# EAGLE library part MKL15Z128VFM4 (library QFN32)
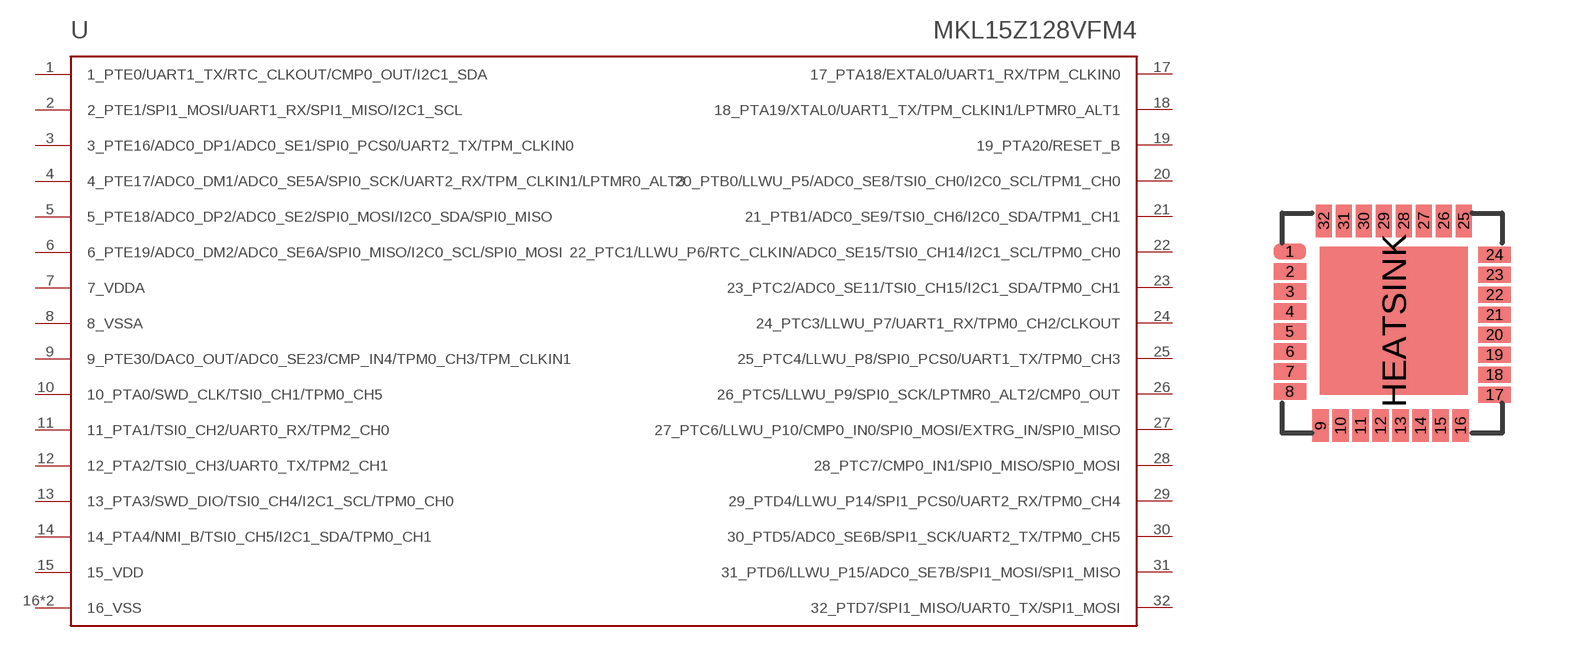
[diagram p0: symbol with the pads of QFN32; footprint QFN32]

Designator prefix -

## MKL15Z128VFM4  [QFN32]
1  1_PTE0/UART1_TX/RTC_CLKOUT/CMP0_OUT/I2C1_SDA
2  2_PTE1/SPI1_MOSI/UART1_RX/SPI1_MISO/I2C1_SCL
3  3_PTE16/ADC0_DP1/ADC0_SE1/SPI0_PCS0/UART2_TX/TPM_CLKIN0
4  4_PTE17/ADC0_DM1/ADC0_SE5A/SPI0_SCK/UART2_RX/TPM_CLKIN1/LPTMR0_ALT3
5  5_PTE18/ADC0_DP2/ADC0_SE2/SPI0_MOSI/I2C0_SDA/SPI0_MISO
6  6_PTE19/ADC0_DM2/ADC0_SE6A/SPI0_MISO/I2C0_SCL/SPI0_MOSI
7  7_VDDA
8  8_VSSA
9  9_PTE30/DAC0_OUT/ADC0_SE23/CMP_IN4/TPM0_CH3/TPM_CLKIN1
10  10_PTA0/SWD_CLK/TSI0_CH1/TPM0_CH5
11  11_PTA1/TSI0_CH2/UART0_RX/TPM2_CH0
12  12_PTA2/TSI0_CH3/UART0_TX/TPM2_CH1
13  13_PTA3/SWD_DIO/TSI0_CH4/I2C1_SCL/TPM0_CH0
14  14_PTA4/NMI_B/TSI0_CH5/I2C1_SDA/TPM0_CH1
15  15_VDD
16  16_VSS
17  17_PTA18/EXTAL0/UART1_RX/TPM_CLKIN0
18  18_PTA19/XTAL0/UART1_TX/TPM_CLKIN1/LPTMR0_ALT1
19  19_PTA20/RESET_B
20  20_PTB0/LLWU_P5/ADC0_SE8/TSI0_CH0/I2C0_SCL/TPM1_CH0
21  21_PTB1/ADC0_SE9/TSI0_CH6/I2C0_SDA/TPM1_CH1
22  22_PTC1/LLWU_P6/RTC_CLKIN/ADC0_SE15/TSI0_CH14/I2C1_SCL/TPM0_CH0
23  23_PTC2/ADC0_SE11/TSI0_CH15/I2C1_SDA/TPM0_CH1
24  24_PTC3/LLWU_P7/UART1_RX/TPM0_CH2/CLKOUT
25  25_PTC4/LLWU_P8/SPI0_PCS0/UART1_TX/TPM0_CH3
26  26_PTC5/LLWU_P9/SPI0_SCK/LPTMR0_ALT2/CMP0_OUT
27  27_PTC6/LLWU_P10/CMP0_IN0/SPI0_MOSI/EXTRG_IN/SPI0_MISO
28  28_PTC7/CMP0_IN1/SPI0_MISO/SPI0_MOSI
29  29_PTD4/LLWU_P14/SPI1_PCS0/UART2_RX/TPM0_CH4
30  30_PTD5/ADC0_SE6B/SPI1_SCK/UART2_TX/TPM0_CH5
31  31_PTD6/LLWU_P15/ADC0_SE7B/SPI1_MOSI/SPI1_MISO
32  32_PTD7/SPI1_MISO/UART0_TX/SPI1_MOSI
HEATSINK  16_VSS

## Footprint QFN32 (pad centres in mm)
smd 0.813 x 0.406: 1 -2.56,1.79; 2 -2.56,1.29; 3 -2.56,0.79; 4 -2.56,0.29; 5 -2.56,-0.21; 6 -2.56,-0.71; 7 -2.56,-1.21; 8 -2.56,-1.71; 17 2.56,-1.79; 18 2.56,-1.29; 19 2.56,-0.79; 20 2.56,-0.29; 21 2.56,0.21; 22 2.56,0.71; 23 2.56,1.21; 24 2.56,1.71
smd 0.406 x 0.813: 9 -1.79,-2.56; 10 -1.29,-2.56; 11 -0.79,-2.56; 12 -0.29,-2.56; 13 0.21,-2.56; 14 0.71,-2.56; 15 1.21,-2.56; 16 1.71,-2.56; 25 1.79,2.56; 26 1.29,2.56; 27 0.79,2.56; 28 0.29,2.56; 29 -0.21,2.56; 30 -0.71,2.56; 31 -1.21,2.56; 32 -1.71,2.56
smd 3.7 x 3.7: HEATSINK 0.04,0.06